# Altium footprint library bridge_rectifiers.PcbLib: 14 footprints
Each footprint in its own frame and in the unit in brackets; x right, y up, seen from the top. Pads: shape width x height; smd on the part's side, far side on the other; paste and mask are expansions set on the pad; w line width, h text height; cw(c..) or ccw(c..) is an arc to the next point about the centre after c.
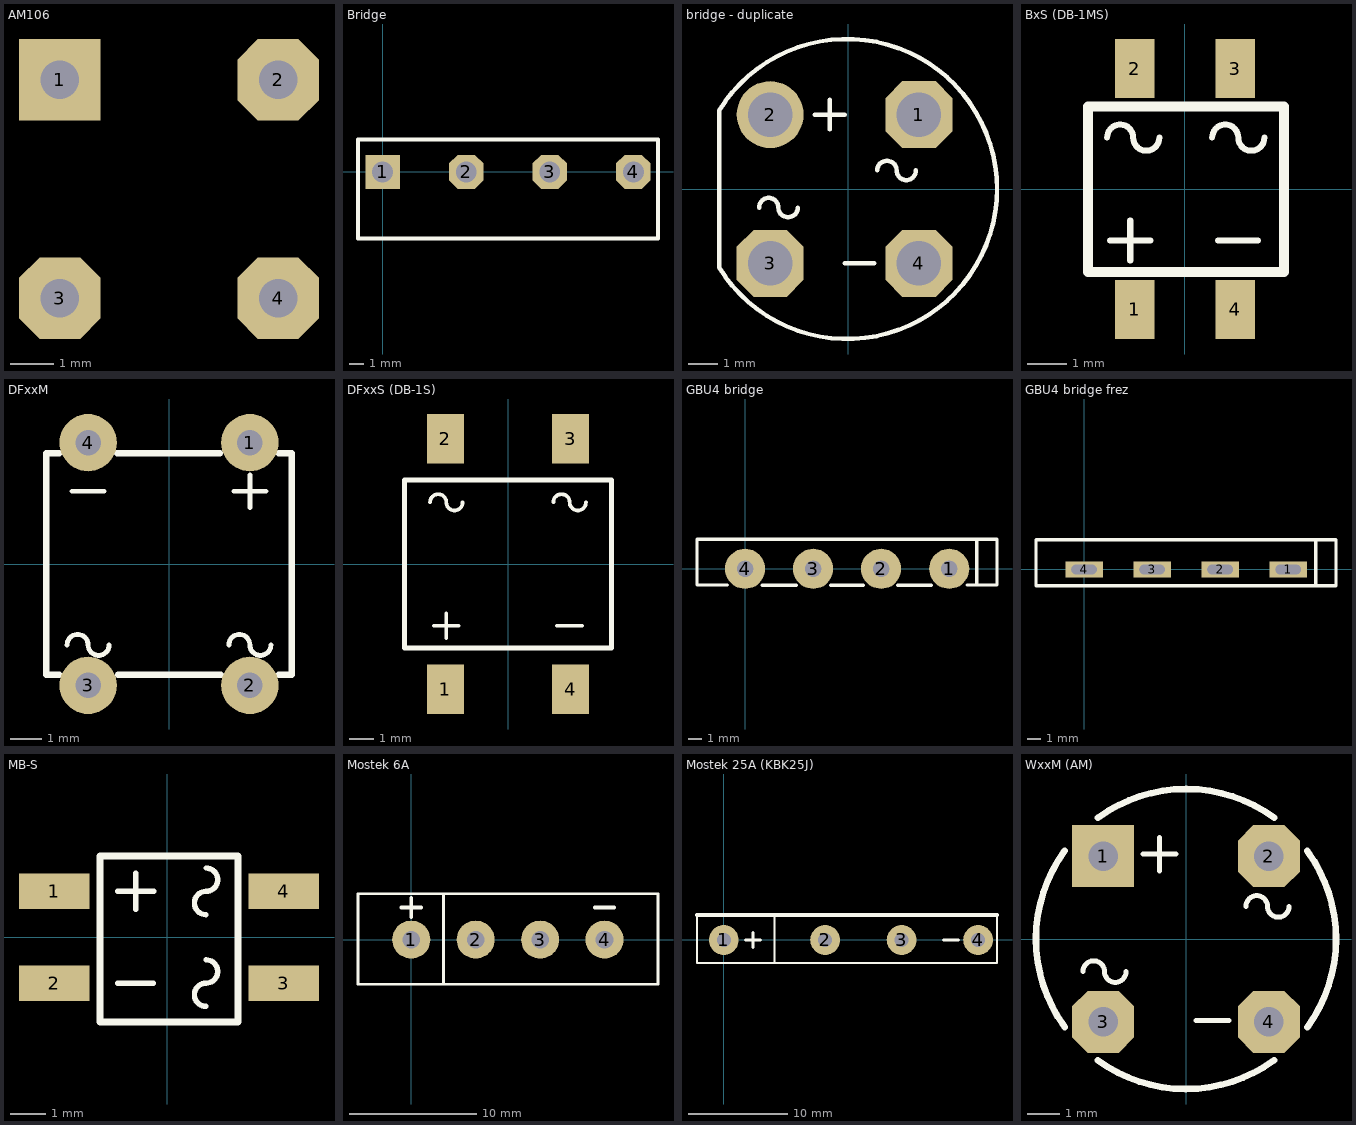
[diagram p0: the footprints below, top view; thin cyan lines are the x and y axes]

## 3N246 [mm]
3D body "User Library-3N246.step": height 5.59, standoff -20.79, extent -6.344,9.252 8.376,14.097

## AM106 [mm]
pads (4):
  rect 1.9x1.9 hole 0.9: 1(4.96,-3.71)
  oct 1.9x1.9 hole 0.9: 2(10.04,-3.71) 3(4.96,-8.79) 4(10.04,-8.79)
3D body "User Library-Panjit AM106.STEP": height 5.5, standoff -4.1, extent 2.8,-10.95 12.2,-1.55

## Bridge [mil]
pads (4):
  rect 90x90 hole 55: 1(0,0)
  oct 90x90 hole 55: 2(220,0) 3(440,0) 4(660,0)
Top Overlay:
  lines w10: -5,85 725,85 725,-175 -65,-175 -65,85 0,85

## bridge - duplicate [mil]
pads (4):
  oct 90x90 hole 60: 1(95,100) 3(-105,-100) 4(95,-100)
  round 90 hole 60: 2(-105,100)
Top Overlay:
  lines w6: -120,-25 cw(c-107,-25) -94,-25 ccw(c-81,-25) -68,-25 ; -45,100 -5,100 ; -25,80 -25,120 ; -5,-100 35,-100 ; 39,25 cw(c52,25) 65,25 ccw(c78,25) 91,25 ; -173.74,-105.35 ccw(c-1.72,0) -173.74,105.35 -173.74,-105.35

## BxS (DB-1MS) [mm] "0,5A, Single-Phase Mini Surface Mount Bridge Rectifier"
height 2.7
pads (4):
  rect 1x1.5 smd: 1(-1.27,-3.048) 2(-1.27,3.048) 3(1.27,3.048) 4(1.27,-3.048)
Top Overlay:
  lines w0.152: -1.971,1.3 cw(c-1.641,1.3) -1.31,1.3 ccw(c-0.98,1.3) -0.65,1.3 ; -1.893,-1.3 -0.877,-1.3 ; -1.385,-1.808 -1.385,-0.792 ; 0.69,1.3 cw(c1.02,1.3) 1.35,1.3 ccw(c1.68,1.3) 2.01,1.3 ; 0.834,-1.3 1.85,-1.3
  lines w0.254: -2.45,-2.1 2.503,-2.1 2.503,2.091 -2.45,2.091 -2.45,-2.1
3D body: height 0.35, standoff 0, extent -1.67,2.032 -0.87,3.432
3D body: height 0.35, standoff 0, extent 0.87,2.032 1.67,3.432
3D body: height 0.35, standoff 0, extent 0.87,-3.432 1.67,-2.032
3D body: height 0.35, standoff 0, extent -1.67,-3.432 -0.87,-2.032
3D body: height 2.7, standoff 0, extent -2.35,-2 2.45,2

## DFxxM [mm] "1A, THT, Vishat Rectifier Bridge"
pads (4):
  round 1.8 hole 0.8: 1(2.54,3.81) 2(2.54,-3.81) 3(-2.54,-3.81) 4(-2.54,3.81)
Top Overlay:
  lines w0.152: -3.2,-2.54 cw(c-2.87,-2.54) -2.54,-2.54 ccw(c-2.21,-2.54) -1.88,-2.54 ; -3.048,2.286 -2.032,2.286 ; 1.88,-2.54 cw(c2.21,-2.54) 2.54,-2.54 ccw(c2.87,-2.54) 3.2,-2.54 ; 2.032,2.286 3.048,2.286 ; 2.54,1.778 2.54,2.794
  lines w0.2: -3.45,-3.475 -3.85,-3.475 -3.85,3.475 -3.45,3.475 ; -1.625,3.475 1.6,3.475 ; -1.6,-3.475 1.625,-3.475 ; 3.45,-3.475 3.85,-3.475 3.85,3.475 3.45,3.475
3D body "User Library-DIP-4 300mil Black.step": height 4.1, standoff -2.4, extent -3.85,-4.003 3.85,3.98

## DFxxS (DB-1S) [mm] "1A, Single-Phase Surface Mount Bridge Recrifier"
height 2.6
pads (4):
  rect 1.5x2 smd: 1(-2.54,-5.08) 2(-2.54,5.08) 3(2.54,5.08) 4(2.54,-5.08)
Top Overlay:
  lines w0.152: -3.16,2.5 cw(c-2.83,2.5) -2.5,2.5 ccw(c-2.17,2.5) -1.84,2.5 ; -3.008,-2.5 -1.992,-2.5 ; -2.5,-3.008 -2.5,-1.992 ; 1.84,2.5 cw(c2.17,2.5) 2.5,2.5 ccw(c2.83,2.5) 3.16,2.5 ; 1.984,-2.5 3,-2.5
  lines w0.2: -4.2,-3.4 4.2,-3.4 4.2,3.4 -4.2,3.4 -4.2,-3.4
3D body "User Library-DFS.STEP": height 2.61, standoff 0.02, extent -4.136,-5.15 4.064,5.15

## GBU4 bridge [mm]
pads (4):
  round 3 hole 1.2: 1(15.24,0) 2(10.16,0) 3(5.08,0) 4(0,0)
Top Overlay:
  lines w0.254: -1.34,-1.21 -3.59,-1.21 -3.59,2.22 18.81,2.22 18.81,-1.21 16.58,-1.21 ; 1.29,-1.22 3.82,-1.22 ; 6.41,-1.22 8.82,-1.22 ; 11.39,-1.22 13.89,-1.22 ; 17.31,-1.18 17.31,2.19

## GBU4 bridge frez [mm]
pads (4):
  rect 2.8x1.2 hole 0.7 slot 1.9 at 0 deg: 1(15.24,0) 2(10.16,0) 3(5.08,0) 4(0,0)
Top Overlay:
  lines w0.254: 17.31,-1.18 17.31,2.19 ; -3.59,-1.21 -3.59,2.22 18.81,2.22 18.81,-1.21 -3.59,-1.21

## KBL [mm]
3D body "User Library-KBL.STEP": height 16.32, standoff -3, extent -10.766,-1.479 8.734,5.021

## MB-S [mm]
pads (4):
  rect 2x1 smd: 1(-3.2,1.3) 2(-3.2,-1.3) 3(3.3,-1.3) 4(3.3,1.3)
Top Overlay:
  lines w0.152: -1.408,-1.3 -0.392,-1.3 ; -1.4,1.3 -0.384,1.3 ; -0.892,0.792 -0.892,1.808 ; 1.1,-1.96 cw(c1.1,-1.63) 1.1,-1.3 ccw(c1.1,-0.97) 1.1,-0.64 ; 1.1,0.64 cw(c1.1,0.97) 1.1,1.3 ccw(c1.1,1.63) 1.1,1.96
  lines w0.2: -1.9,-2.4 2,-2.4 2,2.3 -1.9,2.3 -1.9,-2.4

## Mostek 6A [mm]
height 17.78
pads (4):
  round 3 hole 1.4: 1(0,0) 2(5.08,0) 3(10.16,0) 4(15.24,0)
Top Overlay:
  lines w0.2: 2.54,-3.5 2.54,3.6 ; -4.2,-3.5 -4.2,3.6 19.45,3.6 19.45,-3.5 -4.2,-3.5
  lines w0.3: -0.762,2.54 0.762,2.54 ; 0,1.778 0,3.302 ; 14.478,2.54 16.002,2.54

## Mostek 25A (KBK25J) [mm]
height 21.3
pads (4):
  round 3 hole 1.4: 1(0,0) 2(10.2,0) 3(17.9,0) 4(25.6,0)
Top Overlay:
  lines w0.2: -2.7,2.4 -2.7,-2.3 27.5,-2.3 27.5,2.5 ; 5.1,-2.3 5.1,2.5
  lines w0.3: 2.159,0 3.683,0 ; 2.921,-0.762 2.921,0.762 ; 22.098,0 23.622,0
  lines w0.4: -2.7,2.5 27.5,2.5

## WxxM (AM) [mm] "W005M - W10M, AM100, AM150, (50-1000V, 1,5A) Bridge Rectifiers, DC Components, COMCHIP"
height 5.5
pads (4):
  rect 1.9x1.9 hole 0.9: 1(-2.54,2.54)
  oct 1.9x1.9 hole 0.9: 2(2.54,2.54) 3(-2.54,-2.54) 4(2.54,-2.54)
Top Overlay:
  lines w0.152: -3.16,-1 cw(c-2.83,-1) -2.5,-1 ccw(c-2.17,-1) -1.84,-1 ; -1.316,2.6 -0.3,2.6 ; -0.808,2.092 -0.808,3.108 ; 0.3,-2.5 1.316,-2.5 ; 1.84,1 cw(c2.17,1) 2.5,1 ccw(c2.83,1) 3.16,1
  lines w0.2: -3.724,-2.7 cw(c0,0) -3.716,2.712 ; -2.712,-3.716 ccw(c0,0) 2.7,-3.724 ; -2.7,3.724 cw(c0,0) 2.712,3.716 ; 3.716,-2.712 ccw(c0,0) 3.724,2.7
3D body: height 5.5, standoff 0, extent -4.528,-4.582 4.536,4.5